# Altium footprint library timer_pcb_lib.PcbLib: 8 footprints
Each footprint in its own frame and in the unit in brackets; x right, y up, seen from the top. Pads: shape width x height; smd on the part's side, far side on the other; paste and mask are expansions set on the pad; w line width, h text height; cw(c..) or ccw(c..) is an arc to the next point about the centre after c.
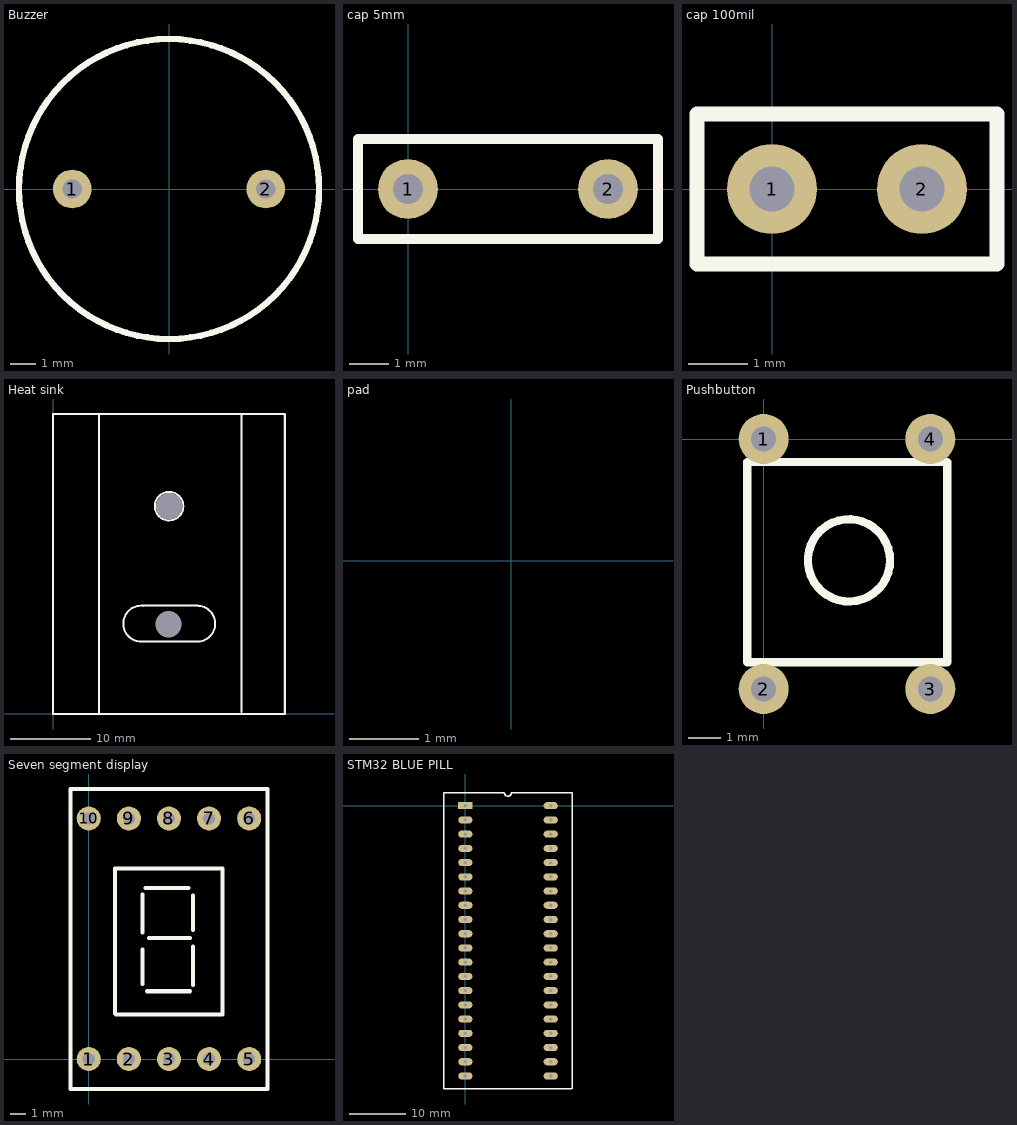
[diagram p0: the footprints below, top view; thin cyan lines are the x and y axes]

## Buzzer [mil]
height 354.33
pads (2):
  round 60 hole 30: 1(-150,0) 2(150,0)
Top Overlay:
  circle w10: c0,0 r232.65

## cap 5mm [mil]
pads (2):
  round 60 hole 30: 1(0,0) 2(200,0)
Top Overlay:
  lines w10: -50,-50 250,-50 250,50 -50,50 -50,-50

## cap 100mil [mil]
pads (2):
  round 60 hole 30: 1(0,0) 2(100,0)
Top Overlay:
  lines w10: -50,-50 -50,50 150,50 150,-50 -50,-50

## Heat sink [mm] "Heat sink for LTO220"
height 11.5
pads (2):
  round 0 hole 3.3: 1(14.5,26) 2(14.425,11.25)
Top Overlay:
  circle w0.254: c14.5,26 r1.781
  lines w0.254: 5.75,0.05 5.75,37.5 ; 11.075,9.05 18.087,9.05 ; 11.223,9.055 cw(c11.025,11.3) 11.259,13.541 ; 11.259,13.55 18.1,13.55 ; 18.087,9.059 ccw(c18.025,11.3) 18.163,13.538 ; 23.55,0.225 23.55,37.5 ; 0,0 0,37.5 29,37.5 29,0 0,0
Keep-Out Layer:
  lines w0.254: 28.875,37.525 28.875,0.025 -0.025,0.025 -0.025,37.475 0.025,37.525 28.875,37.525 ; 28.875,37.525 28.875,37.525

## pad [mil] "Pad for soldering wire"
Multi-Layer:
  lines w118.11: -1.97,-86.61 -1.97,82.68

## Pushbutton [mil] "TACT-613N-F"
height 511.81
pads (4):
  round 60 hole 30: 1(0,0) 2(0,-300) 3(200,-300) 4(200,0)
Top Overlay:
  circle w10: c102.36,-145.67 r49.33
  lines w10: -19.68,-267.72 -19.68,-27.56 220.47,-27.56 220.47,-267.72 -19.68,-267.72

## Seven segment display [mil]
height 7
pads (10):
  round 60 hole 30: 1(0,0) 2(100,0) 3(200,0) 4(300,0) 5(400,0) 6(400,600) 7(300,600) 8(200,600) 9(100,600) 10(0,600)
Top Overlay:
  lines w10: 66,113 66,475 334,475 334,111 ; 68,111 329,111 ; 134,187 134,273 ; 134,315 134,410 ; 141,426 249,426 ; 145,169 253,169 ; 150,302 252,302 ; 260,185 260,280 ; 260,322 260,408 ; -46,-74.74 446.13,-74.74 446.13,673.29 -46,673.29 -46,-74.74

## STM32 BLUE PILL [mil]
pads (40):
  rect 100x50 hole 25: 1(0,0)
  oval 100x50 hole 25: 2(0,-100) 3(0,-200) 4(0,-300) 5(0,-400) 6(0,-500) 7(0,-600) 8(0,-700) 9(0,-800) 10(0,-900) 11(0,-1000) 12(0,-1100) 13(0,-1200) 14(0,-1300) 15(0,-1400) 16(0,-1500) 17(0,-1600) 18(0,-1700) 19(0,-1800) 20(0,-1900) 21(600,-1900) 22(600,-1800) 23(600,-1700) 24(600,-1600) 25(600,-1500) 26(600,-1400) 27(600,-1300) 28(600,-1200) 29(600,-1100) 30(600,-1000) 31(600,-900) 32(600,-800) 33(600,-700) 34(600,-600) 35(600,-500) 36(600,-400) 37(600,-300) 38(600,-200) 39(600,-100) 40(600,0)
Top Overlay:
  lines w10: -151.57,92.32 274.02,92.32 ccw(c299.02,92.32) 324.02,92.32 750,92.32 ; -150.59,89.57 -150.59,-1990.16 -149.41,-1991.34 72.83,-1991.34 523.62,-1991.34 749.02,-1991.34 ; 750.98,-1990.16 750.98,90.55